# EAGLE library part PIXIE (library Pixie)
PIXIE MICRODOT DISPLAY by Lixie Labs
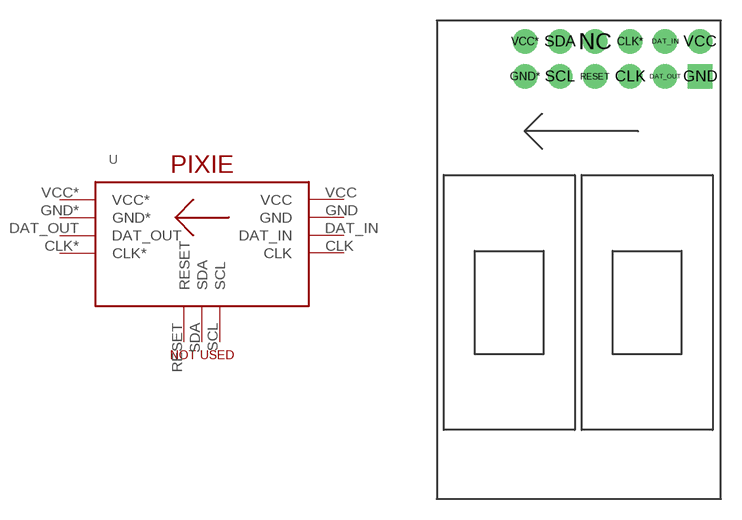
[diagram p0: symbol with the pads of PIXIE; footprint PIXIE]

Designator prefix -

## PIXIE  [PIXIE]
CLK  CLK
CLK*  CLK*
DAT_IN  DAT_IN  in
DAT_OUT  DAT_OUT  out
GND  GND  pwr
GND*  GND*  pwr
RESET  RESET
SCL  SCL
SDA  SDA
VCC  VCC  pwr
VCC*  VCC*  pwr

## Footprint PIXIE (pad centres in mm)
drill 0.7 pad 1.778: CLK 14.02,30.66; CLK* 14.02,33.2; DAT_IN 16.56,33.2; DAT_OUT 16.56,30.66; GND* 6.4,30.66; NC 11.48,33.2; RESET 11.48,30.66; SCL 8.94,30.66; SDA 8.94,33.2; VCC 19.1,33.2; VCC* 6.4,33.2
drill 0.7 pad 1.778 square: GND 19.1,30.66